# Altium integrated library SFH_2701.IntLib: 1 symbol
Pins are listed as number, name and electrical type; pins without a type are passive.

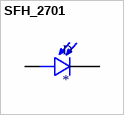
[diagram p0: symbol SFH_2701]

## SFH_2701
designator D
Photodiode 820nm 2ns 120Â° 2-SMD, No Lead; MF: OSRAM Opto; Package: SMD-2 OSRAM Opto; SnapEDA_Link: https://www.snapeda.com/parts/SFH%202701/OSRAM%20Opto%20Semiconductors%20Inc./view-part/289594/?ref=snap; MP: SFH 2701; Price: None; Availability: Unavailable; Value: *
footprint LEDC3215X125N
pins: A, C